# Altium footprint library O_JonF_DaveL.PcbLib: 331 footprints (part 18 of 21)
Each footprint in its own frame and in the unit in brackets; x right, y up, seen from the top. Pads: shape width x height; smd on the part's side, far side on the other; paste and mask are expansions set on the pad; w line width, h text height; cw(c..) or ccw(c..) is an arc to the next point about the centre after c.
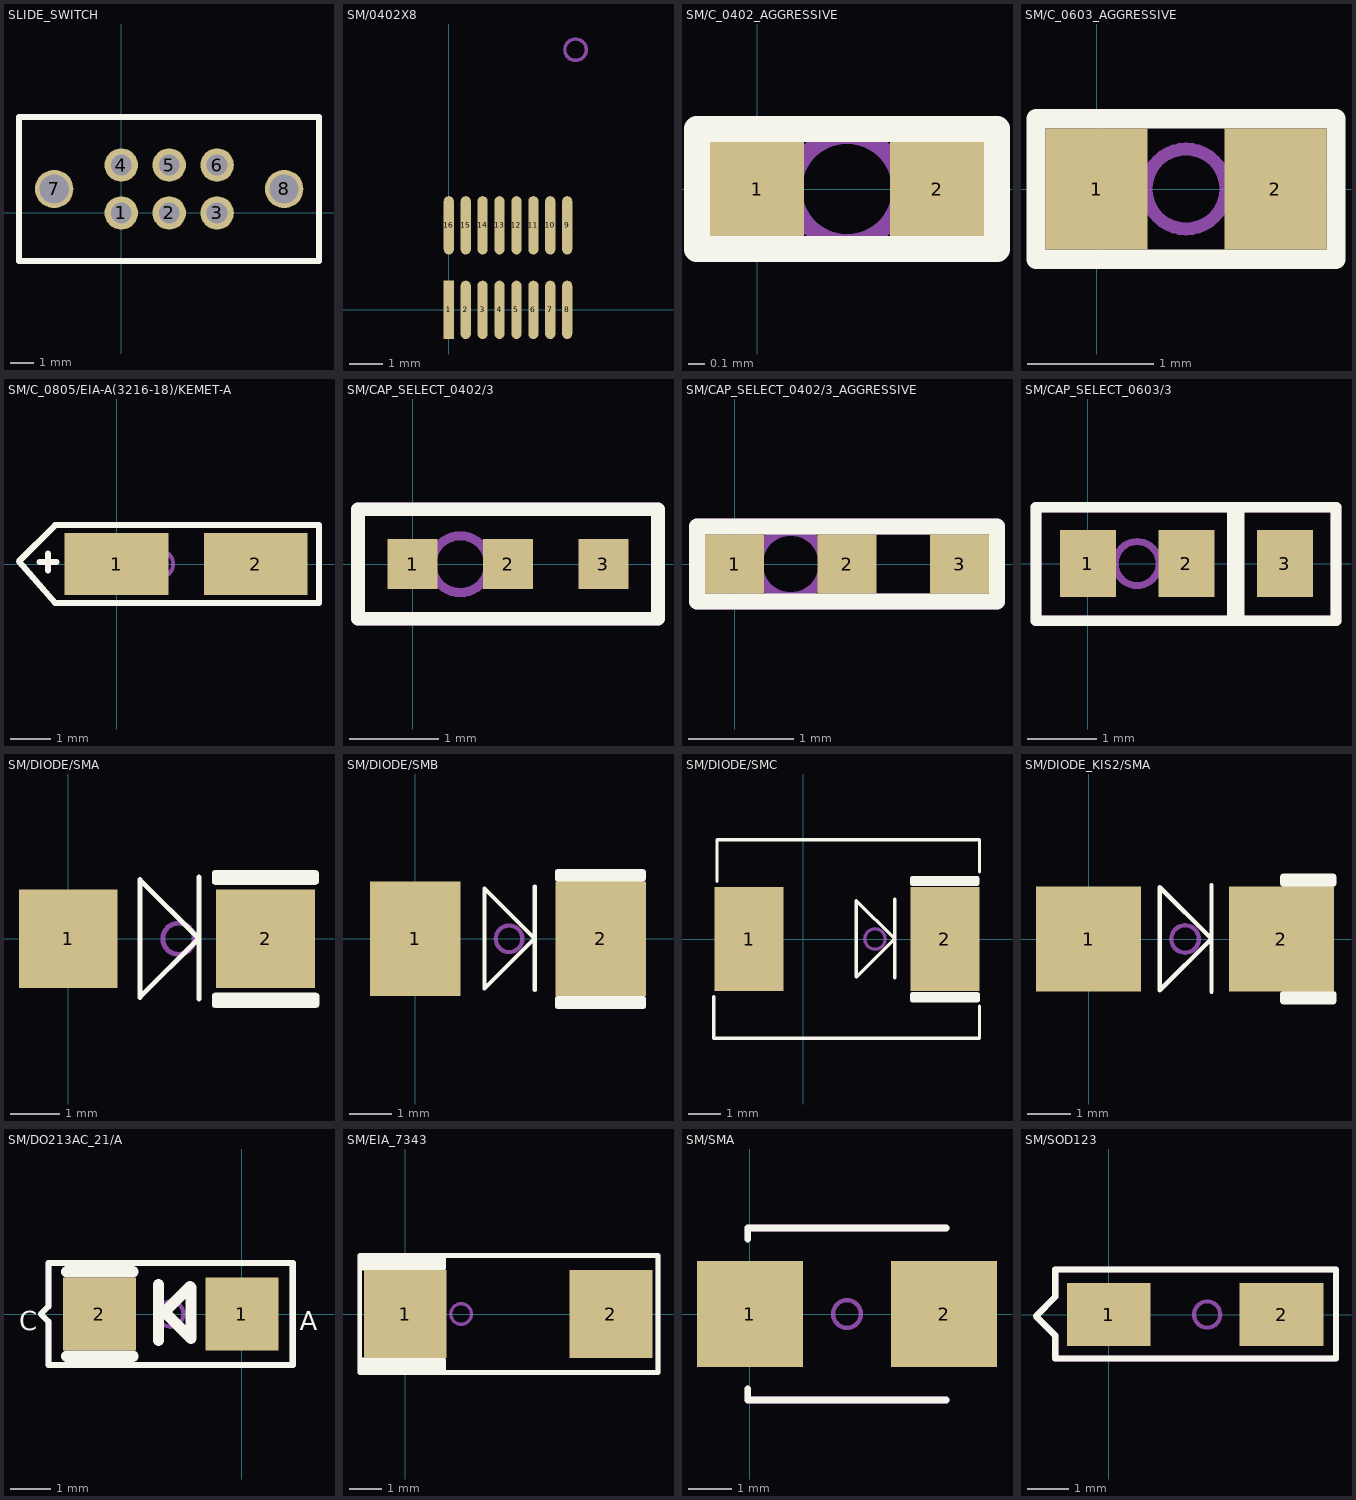
[diagram p17: the footprints below, top view; thin cyan lines are the x and y axes]

## SLIDE_SWITCH [mil]
pads (8):
  round 55 hole 34: 1(0,0) 2(78.73,0) 3(157.48,0) 4(0,78.73) 5(78.73,78.73) 6(157.48,78.73)
  round 63 hole 48: 7(-110.23,39.37) 8(267.7,39.37)
Top Overlay:
  lines w10: -168.1,-78.73 325,-78.73 325,157.47 -168.1,157.47 -168.1,-78.73
  text ".Designator" at -33.33,175.75 h45
Mechanical 1:
  lines w10: -168.1,-78.73 325,-78.73 325,157.47 -168.1,157.47 -168.1,-78.73
  text ".Pattern" at 289.17,129.13 h22.5
  text ".Comment" at 245,50.75 h45
  text ".Designator" at 266.67,175.75 h45

## SM/0402X8 [mm]
pads (16):
  rect 0.3x1.727 smd: 1(0,0)
  oval 0.3x1.727 smd: 2(0.5,0) 3(1.001,0) 4(1.501,0) 5(2.002,0) 6(2.502,0) 7(3.002,0) 8(3.503,0) 9(3.503,2.5) 10(3.002,2.5) 11(2.502,2.5) 12(2.002,2.5) 13(1.501,2.5) 14(1.001,2.5) 15(0.5,2.5) 16(0,2.5)
Top Overlay:
  text ".Designator" at -10.579,13.386 h0.95
Mechanical 1:
  text ".Designator" at -9.959,9.766 h0.95
  text ".Comment" at -10.421,11.267 h0.95
  text ".Pattern" at -9.384,8.683 h0.57
Mechanical 3:
  lines w0.102: 3.434,7.696 cw(c3.752,7.696) 3.752,8.014 cw(c3.752,7.696) 4.069,7.696 cw(c3.752,7.696) 3.752,7.379 cw(c3.752,7.696) 3.434,7.696

## SM/C_0402_AGGRESSIVE [mil]
pads (2):
  rect 22x22 smd: 1(0,0) 2(42,0)
Top Overlay:
  lines w6: -14,-14 -14,14 56,14 56,-14 -14,-14
  text ".Designator" at -14.47,-15.62 h15
Mechanical 1:
  lines w6: -14,-14 56,-14 56,14 -14,14 -14,-14
  text ".Designator" at -63.45,19.38 h37.5
  text ".Comment" at -62.33,-82.23 h37.5
  text ".Pattern" at -51.4,-14.88 h22.5
Mechanical 3:
  lines w4: 8.5,0 cw(c21,0) 21,12.5 cw(c21,0) 33.5,0 cw(c21,0) 21,-12.5 cw(c21,0) 8.5,0

## SM/C_0603_AGGRESSIVE [mil]
pads (2):
  rect 32x38 smd: 1(0,0) 2(56,0)
Top Overlay:
  lines w6: -19,-22 75,-22 75,22 -19,22 -19,-22
  text ".Designator" at -19.47,-22.62 h15
Mechanical 1:
  text ".Designator" at -41.45,19.38 h37.5
  text ".Comment" at -55.33,-80.63 h37.5
  text ".Pattern" at -47,-18.38 h22.5
Mechanical 3:
  lines w4: 15.5,0 cw(c28,0) 28,12.5 cw(c28,0) 40.5,0 cw(c28,0) 28,-12.5 cw(c28,0) 15.5,0

## SM/C_0805/EIA-A(3216-18)/KEMET-A [mil]
pads (2):
  rect 100x60 smd: 1(0,0) 2(134,0)
Top Overlay:
  lines w6: -74,2 -58,2 ; -66,-6 -66,10 ; -94,2.5 -59,37.5 195,37.5 195,-37.5 -59,-37.5 -94,2.5
  text ".Designator" at -58.45,-95.62 h37.5
Mechanical 1:
  text ".Comment" at -63.33,46.37 h37.5
  text ".Pattern" at -64,107.62 h22.5
  text ".Designator" at -64.45,144.38 h37.5
Mechanical 3:
  lines w4: 29.5,0 cw(c42,0) 42,12.5 cw(c42,0) 54.5,0 cw(c42,0) 42,-12.5 cw(c42,0) 29.5,0

## SM/CAP_SELECT_0402/3 [mil]
pads (3):
  rect 22x22 smd: 1(0,0) 2(42,0) 3(84,0)
Top Overlay:
  lines w6: -24,-24 108,-24 108,24.2 -24,24.2 -24,-24
  text ".Designator" at -63.45,19.38 h37.5
Mechanical 1:
  lines w6: -24,-24 -24,24.2 108,24.2 108,-24 -24,-24
  text ".Designator" at -63.45,19.38 h37.5
  text ".Comment" at -62.33,-82.23 h37.5
  text ".Pattern" at -51.4,-14.88 h22.5
Mechanical 3:
  lines w4: 8.5,0 cw(c21,0) 21,12.5 cw(c21,0) 33.5,0 cw(c21,0) 21,-12.5 cw(c21,0) 8.5,0

## SM/CAP_SELECT_0402/3_AGGRESSIVE [mil]
pads (3):
  rect 22x22 smd: 1(0,0) 2(42,0) 3(84,0)
Top Overlay:
  lines w6: -14,-14 -14,14 98,14 98,-14 -14,-14
  text ".Designator" at -63.45,19.38 h37.5
Mechanical 1:
  lines w6: -14,-14 98,-14 98,14 -14,14 -14,-14
  text ".Designator" at -63.45,19.38 h37.5
  text ".Comment" at -62.33,-82.23 h37.5
  text ".Pattern" at -51.4,-14.88 h22.5
Mechanical 3:
  lines w4: 8.5,0 cw(c21,0) 21,12.5 cw(c21,0) 33.5,0 cw(c21,0) 21,-12.5 cw(c21,0) 8.5,0

## SM/CAP_SELECT_0603/3 [mil]
pads (3):
  rect 32x38 smd: 1(0,0) 2(56,0) 3(112,0)
Top Overlay:
  lines w6: -29.5,-32.5 141,-32.5 141,32 -29.5,32 -29.5,-32.5 ; 82,-32 86,-32 86,32 82,32 82,-32
  text ".Designator" at -41.45,44.38 h37.5
Mechanical 1:
  lines w6: -29.5,-32.5 141,-32.5 141,32 -29.5,32 -29.5,-32.5
  text ".Designator" at -41.45,19.38 h37.5
  text ".Comment" at -55.33,-80.63 h37.5
  text ".Pattern" at -47,-18.38 h22.5
Mechanical 3:
  lines w4: 15.5,0 cw(c28,0) 28,12.5 cw(c28,0) 40.5,0 cw(c28,0) 28,-12.5 cw(c28,0) 15.5,0

## SM/DIODE/SMA [mm]
pads (2):
  rect 2x2 smd: 1(0,0) 2(4,0)
Top Overlay:
  region: 5.068,-1.112 5.084,-1.15 5.084,-1.35 5.068,-1.388 5.03,-1.404 2.97,-1.404 2.932,-1.388 2.916,-1.35 2.916,-1.15 2.932,-1.112 2.97,-1.096 5.03,-1.096
  region: 5.058,1.378 5.074,1.34 5.074,1.15 5.058,1.112 5.02,1.096 2.97,1.096 2.932,1.112 2.916,1.15 2.916,1.34 2.932,1.378 2.97,1.394 5.02,1.394
  lines w0.1: 2.65,-1.22 2.65,1.25 ; 1.45,-1.19 1.45,1.2 2.645,0.005 1.45,-1.19
  text ".Designator" at -1.059,-2.823 h0.95
Mechanical 1:
  text ".Comment" at -0.998,-4.02 h0.95
  text ".Pattern" at -1.01,-4.99 h0.57
  text ".Designator" at -1.079,-2.828 h0.95
Mechanical 3:
  lines w0.102: 1.918,0 cw(c2.235,0) 2.235,0.318 cw(c2.235,0) 2.553,0 cw(c2.235,0) 2.235,-0.318 cw(c2.235,0) 1.918,0

## SM/DIODE/SMB [mil]
pads (2):
  rect 85x107.99 smd: 1(0,0) 2(174.02,0)
Top Overlay:
  region: 216.07,-54.4 216.7,-55.91 216.7,-63.78 216.07,-65.29 214.57,-65.91 133.46,-65.91 131.96,-65.29 131.33,-63.78 131.33,-55.91 131.96,-54.4 133.46,-53.77 214.57,-53.77
  region: 215.68,64.89 216.3,63.39 216.3,55.91 215.68,54.4 214.17,53.77 133.46,53.77 131.96,54.4 131.33,55.91 131.33,63.39 131.96,64.89 133.46,65.52 214.17,65.52
  lines w3.94: 112.2,-48.03 112.2,49.21 ; 64.96,-46.85 64.96,47.24 112.01,0.2 64.96,-46.85
Mechanical 3:
  lines w4: 75.5,0 cw(c88,0) 88,12.5 cw(c88,0) 100.5,0 cw(c88,0) 88,-12.5 cw(c88,0) 75.5,0

## SM/DIODE/SMC [mm]
pads (2):
  rect 2.159x3.25 smd: 1(-1.7,0) 2(4.42,0)
Top Overlay:
  region: 5.488,-1.682 5.504,-1.72 5.504,-1.92 5.488,-1.958 5.45,-1.974 3.39,-1.974 3.352,-1.958 3.336,-1.92 3.336,-1.72 3.352,-1.682 3.39,-1.666 5.45,-1.666
  region: 5.478,1.948 5.494,1.91 5.494,1.72 5.478,1.682 5.44,1.666 3.39,1.666 3.352,1.682 3.336,1.72 3.336,1.91 3.352,1.948 3.39,1.964 5.44,1.964
  lines w0.1: -2.8,-1.8 -2.8,-3.1 5.5,-3.1 5.5,-2.1 ; -2.7,1.8 -2.7,3.1 5.5,3.1 5.5,2.1 ; 2.85,-1.22 2.85,1.25 ; 1.65,-1.19 1.65,1.2 2.845,0.005 1.65,-1.19
  text ".Designator" at -2.759,3.277 h0.95
Mechanical 1:
  text ".Comment" at -2.798,-4.72 h0.95
  text ".Pattern" at -2.81,-5.59 h0.57
  text ".Designator" at -2.779,3.272 h0.95
Mechanical 3:
  lines w0.102: 1.918,0 cw(c2.235,0) 2.235,0.318 cw(c2.235,0) 2.553,0 cw(c2.235,0) 2.235,-0.318 cw(c2.235,0) 1.918,0

## SM/DIODE_KIS2/SMA [mil]
pads (2):
  rect 96x96 smd: 1(0,0) 2(176,0)
Top Overlay:
  region: 225.13,-48.1 225.75,-49.61 225.75,-57.48 225.13,-58.99 223.62,-59.61 177.17,-59.61 175.66,-58.99 175.03,-57.48 175.03,-49.61 175.66,-48.1 177.17,-47.48 223.62,-47.48
  region: 225.13,58.99 225.75,57.48 225.75,50 225.13,48.49 223.62,47.87 177.17,47.87 175.66,48.49 175.03,50 175.03,57.48 175.66,58.99 177.17,59.61 223.62,59.61
  lines w3.94: 112.2,-48.03 112.2,49.21 ; 64.96,-46.85 64.96,47.24 112.01,0.2 64.96,-46.85
  text ".Designator" at -46.8,61.3 h37.5
Mechanical 1:
  text ".Designator" at 18.55,-30.63 h37.5
  text ".Comment" at -0.33,31.88 h37.5
  text ".Pattern" at 27.17,-70.88 h22.5
Mechanical 3:
  lines w4: 75.5,0 cw(c88,0) 88,12.5 cw(c88,0) 100.5,0 cw(c88,0) 88,-12.5 cw(c88,0) 75.5,0

## SM/DO213AC_21/A [mil]
pads (2):
  rect 72x72 smd: 1(0,0) 2(-140,0)
Top Overlay:
  lines w6: -197.5,0 -190,-7.5 -190,-50 50,-50 50,50 -190,50 -190,7.5 -197.5,0
  lines w11: -172,-41.5 -107,-41.5 ; -172,41.6 -107,41.6 ; -82,-26 -82,29 ; -51,27 -76,2 -50,-24 -50,26
  text "C" at -219,-16 h18.75
  text "A" at 57,-16 h18.75
  text ".Designator" at -184.55,41.87 h37.5
Mechanical 1:
  lines w6: -197.5,0 -190,-7.5 -190,-50 50,-50 50,50 -190,50 -190,7.5 -197.5,0
  text ".Comment" at -152.33,18.78 h37.5
  text ".Pattern" at -176.43,-68.38 h22.5
  text ".Designator" at -134.55,-33.13 h37.5
Mechanical 3:
  lines w4: -82.5,0 cw(c-70,0) -70,12.5 cw(c-70,0) -57.5,0 cw(c-70,0) -70,-12.5 cw(c-70,0) -82.5,0

## SM/EIA_7343 [mm]
pads (2):
  rect 2.55x2.7 smd: 1(0,0) 2(6.35,0)
Top Overlay:
  region: 1.238,1.838 1.254,1.8 1.254,1.4 1.238,1.362 1.2,1.346 -1.4,1.346 -1.438,1.362 -1.454,1.4 -1.454,1.8 -1.438,1.838 -1.4,1.854 1.2,1.854
  region: 1.238,-1.362 1.254,-1.4 1.254,-1.8 1.238,-1.838 1.2,-1.854 -1.4,-1.854 -1.438,-1.838 -1.454,-1.8 -1.454,-1.4 -1.438,-1.362 -1.4,-1.346 1.2,-1.346
  lines w0.152: -1.4,-1.8 7.8,-1.8 7.8,1.8 -1.4,1.8 -1.4,-1.8
  text ".Designator" at -1.31,1.981 h0.95
Mechanical 1:
  lines w0.152: -1.4,-1.8 -1.4,1.8 7.8,1.8 7.8,-1.8 -1.4,-1.8
  text ".Designator" at -1.31,1.981 h0.95
  text ".Comment" at -0.389,-2.724 h0.95
  text ".Pattern" at -0.114,-0.68 h0.57
Mechanical 3:
  lines w0.102: 1.41,0 cw(c1.727,0) 1.727,0.318 cw(c1.727,0) 2.045,0 cw(c1.727,0) 1.727,-0.318 cw(c1.727,0) 1.41,0

## SM/SMA [mil]
pads (2):
  rect 96x96 smd: 1(0,0) 2(176,0)
Top Overlay:
  lines w6: -2,-68 -2,-78 178,-78 ; -2,68 -2,78 178,78
  text ".Designator" at 18.55,94.37 h37.5
Mechanical 1:
  lines w6: -2,-68 -2,-78 178,-78 ; -2,68 -2,78 178,78
  text ".Designator" at 18.55,-30.63 h37.5
  text ".Comment" at -0.33,31.88 h37.5
  text ".Pattern" at 27.17,-70.88 h22.5
Mechanical 3:
  lines w4: 75.5,0 cw(c88,0) 88,12.5 cw(c88,0) 100.5,0 cw(c88,0) 88,-12.5 cw(c88,0) 75.5,0

## SM/SOD123 [mil]
pads (2):
  rect 80x60 smd: 1(0,0) 2(165,0)
Top Overlay:
  lines w6: -69.5,-1.5 -51,17 -51,43 217,43 217,-42 -51,-42 -51,-20 -69.5,-1.5
  text ".Designator" at -50.45,69.37 h37.5
Mechanical 1:
  lines w6: -69.5,-1.5 -51,17 -51,43 217,43 217,-42 -51,-42 -51,-20 -69.5,-1.5
Mechanical 3:
  lines w4: 81.5,0 ccw(c94,0) 94,-12.5 ccw(c94,0) 106.5,0 ccw(c94,0) 94,12.5 ccw(c94,0) 81.5,0